# Altium footprint library SHDR4W100P0X508_1X4_2192X850X1200P.PcbLib: 1 footprints
Each footprint in its own frame and in the unit in brackets; x right, y up, seen from the top. Pads: shape width x height; smd on the part's side, far side on the other; paste and mask are expansions set on the pad; w line width, h text height; cw(c..) or ccw(c..) is an arc to the next point about the centre after c.
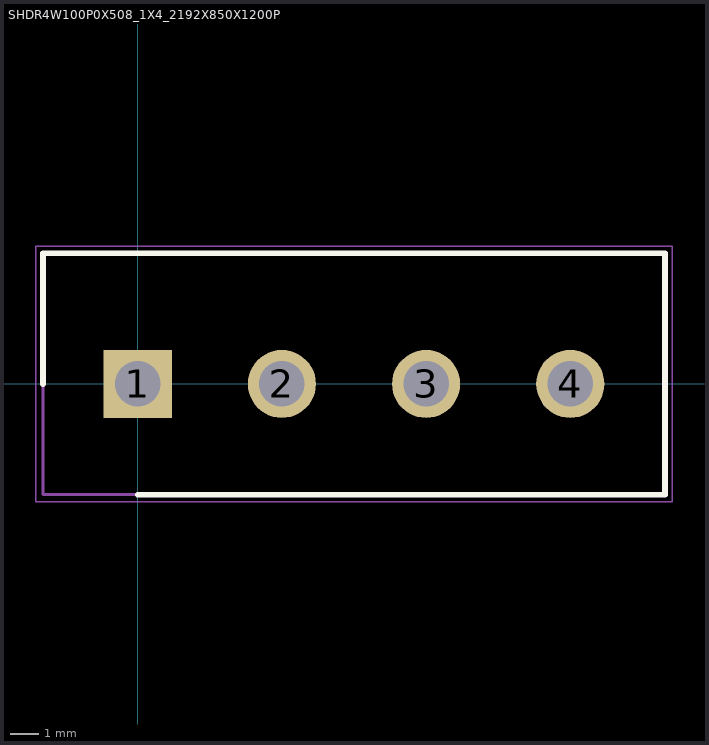
[diagram p0: the footprint, top view; thin cyan lines are the x and y axes]

## SHDR4W100P0X508_1X4_2192X850X1200P [mm]
pads (4):
  rect 2.4x2.4 / inner round 2.4 / far side rect 2.4x2.4 hole 1.6: 1(0,0)
  round 2.4 hole 1.6: 2(5.08,0) 3(10.16,0) 4(15.24,0)
Top Overlay:
  lines w0.2: -3.34,0 -3.34,4.6 18.58,4.6 18.58,-3.9 0,-3.9
Mechanical 15:
  lines w0.1: -3.34,-3.9 -3.34,4.6 18.58,4.6 18.58,-3.9 -3.34,-3.9
Mechanical 20:
  lines w0.05: -3.59,-4.15 -3.59,4.85 18.83,4.85 18.83,-4.15 -3.59,-4.15